# Altium footprint library 53261-0571.PcbLib: 1 footprints
Each footprint in its own frame and in the unit in brackets; x right, y up, seen from the top. Pads: shape width x height; smd on the part's side, far side on the other; paste and mask are expansions set on the pad; w line width, h text height; cw(c..) or ccw(c..) is an arc to the next point about the centre after c.
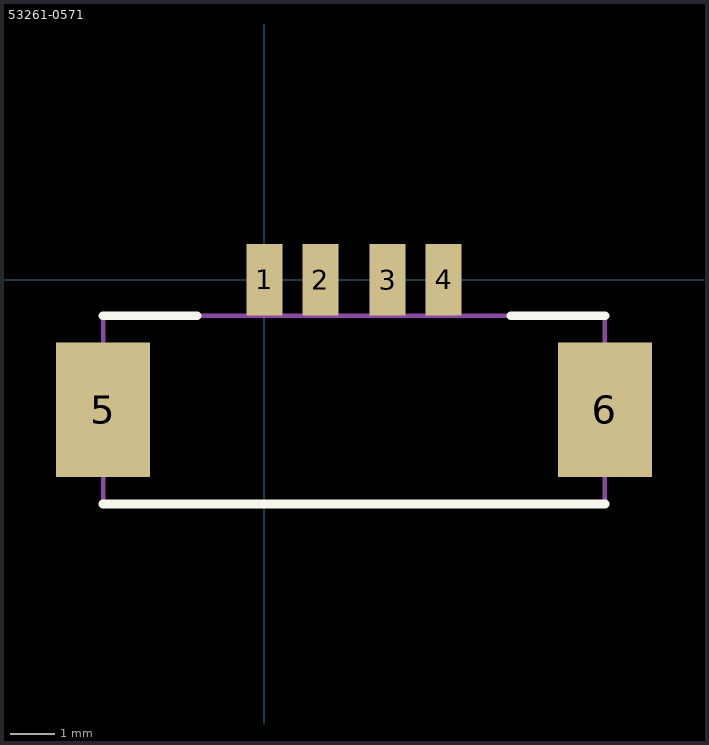
[diagram p0: the footprint, top view; thin cyan lines are the x and y axes]

## 53261-0571 [mm]
pads (6):
  rect 0.8x1.6 smd: 1(0,0) 2(1.25,0) 3(2.75,0) 4(4,0)
  rect 2.1x3 smd: 5(-3.6,-2.9) 6(7.6,-2.9)
L26-Silk Screen Top (Multiple PADS layers...):
  lines w0.2: -3.6,-5 7.6,-5 ; -3.6,-0.8 -1.5,-0.8 ; 5.5,-0.8 7.6,-0.8
L15 (Multiple PADS layers...):
  lines w0.1: -3.6,-5 -3.6,-0.8 7.6,-0.8 7.6,-5 -3.6,-5